# Altium schematic symbol library CMS04.SchLib: 1 symbol
Pins are listed as number, name and electrical type; pins without a type are passive.

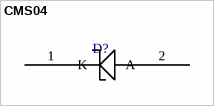
[diagram p0: symbol CMS04]

## CMS04
designator D?
pins: 1 K, 2 A